# Altium footprint library TestDevicePcbLib.PcbLib: 17 footprints (part 2 of 2)
Each footprint in its own frame and in the unit in brackets; x right, y up, seen from the top. Pads: shape width x height; smd on the part's side, far side on the other; paste and mask are expansions set on the pad; w line width, h text height; cw(c..) or ccw(c..) is an arc to the next point about the centre after c.
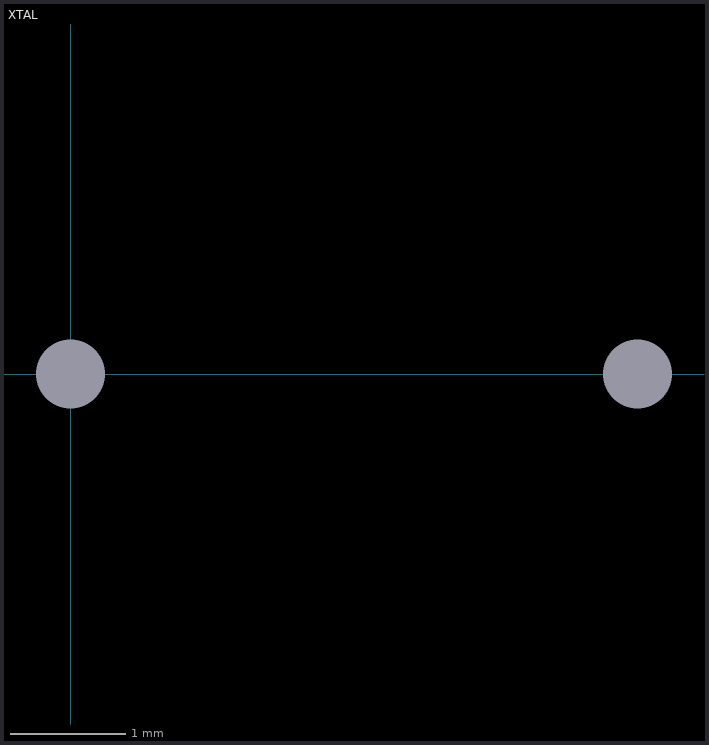
[diagram p1: the footprint, top view; thin cyan lines are the x and y axes]

## XTAL [mm]
pads (2):
  round 0 / inner round 1.5 / far side round 1.5 hole 0.6: 1(0,0) 2(4.9,0)
3D body "XTAL.STEP": height 4, standoff -12.83, extent -3.3,-2.5 8.2,2.5